# Altium footprint library Connectors.PcbLib: 19 footprints (part 1 of 2)
Each footprint in its own frame and in the unit in brackets; x right, y up, seen from the top. Pads: shape width x height; smd on the part's side, far side on the other; paste and mask are expansions set on the pad; w line width, h text height; cw(c..) or ccw(c..) is an arc to the next point about the centre after c.
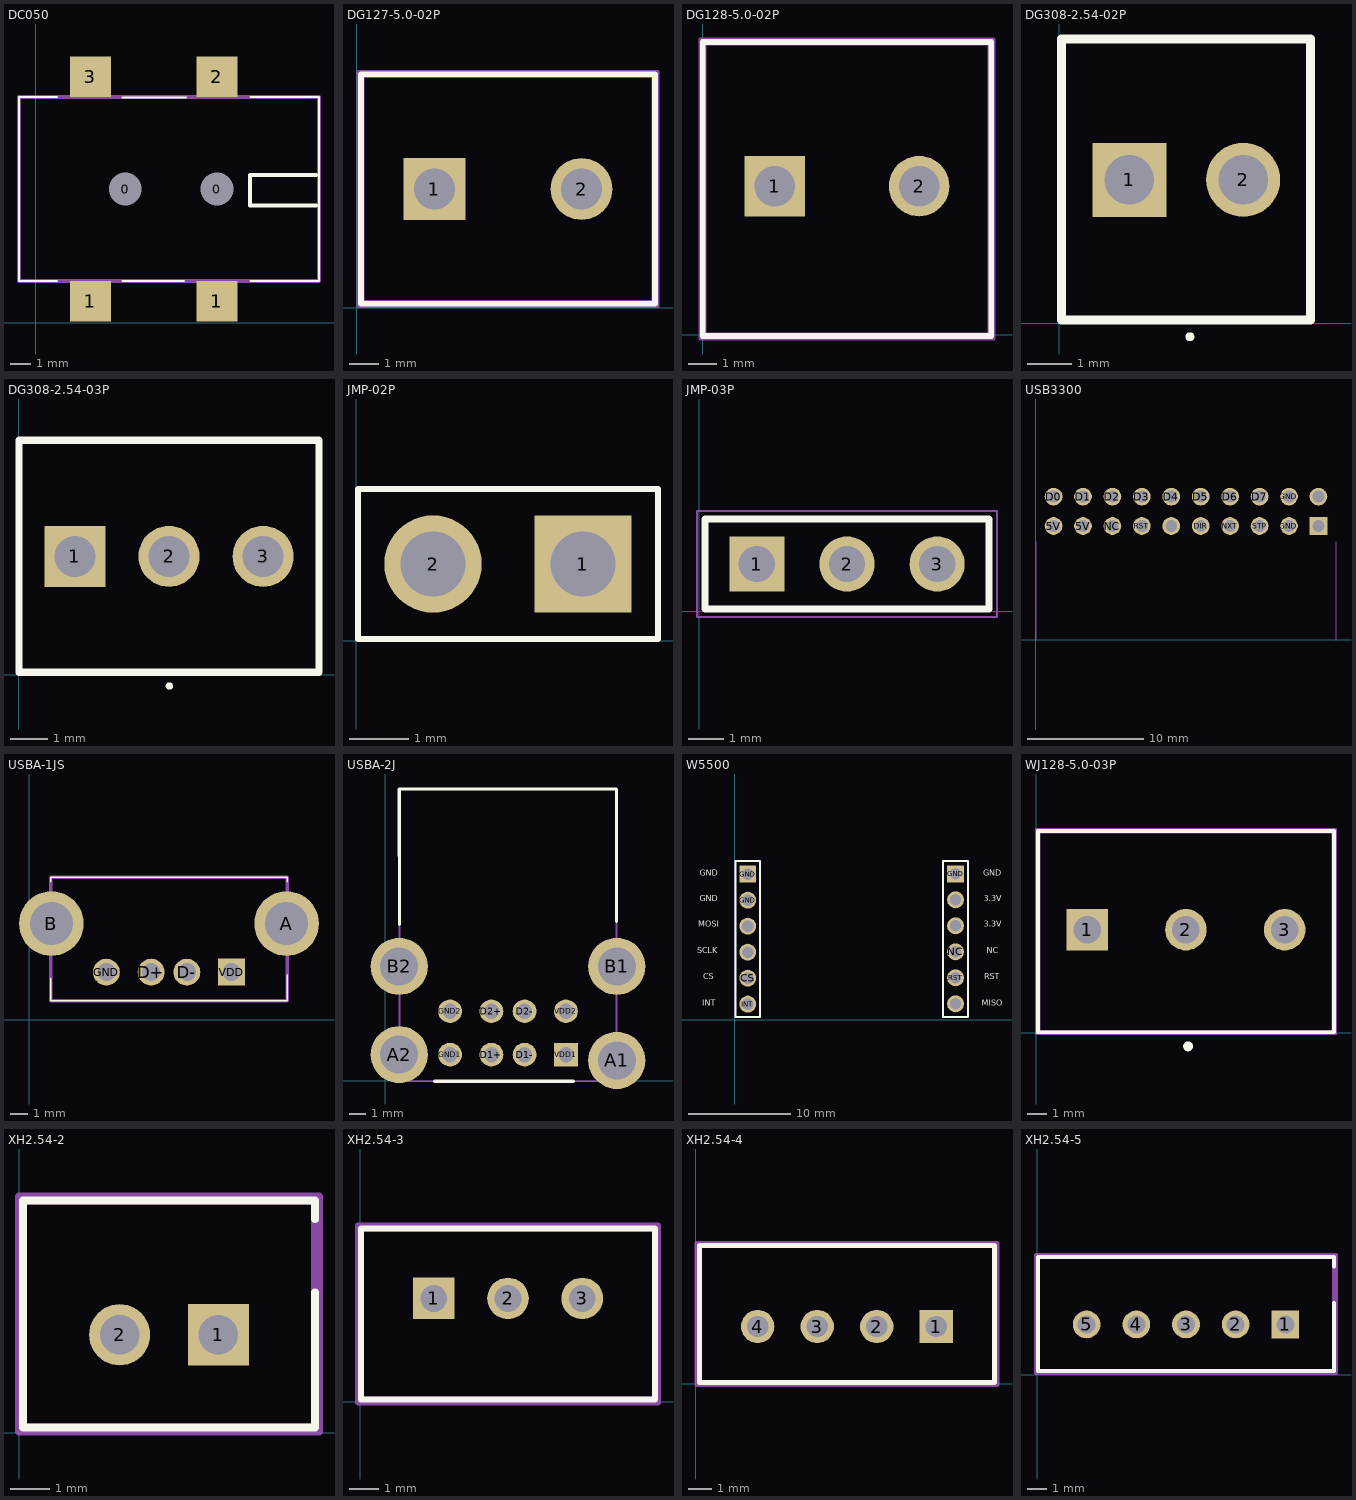
[diagram p0: the footprints below, top view; thin cyan lines are the x and y axes]

## DC050 [mm]
pads (6):
  round 0.8 hole 1.6 unplated: 0(4.387,6.558) 0(8.887,6.558)
  rect 2x2 smd: 1(2.687,1.058) 1(8.887,1.058) 2(8.887,12.058) 3(2.687,12.058)
Top Overlay:
  lines w0.1: 1.037,2.058 -0.813,2.058 -0.813,11.058 1.037,11.058 ; 4.25,2.05 7.275,2.05 ; 4.25,11.05 7.375,11.05 ; 10.537,2.058 13.887,2.058 13.887,11.058 10.537,11.058
  lines w0.2: 13.75,5.75 10.5,5.75 10.5,7.25 13.75,7.25
Top Courtyard:
  lines w0.2: -0.813,2.058 -0.813,11.058 13.887,11.058 13.887,2.058 -0.813,2.058
3D body "DC-050-T20.stp": height 11.1, standoff -1.7, extent -0.8,0.3 13.9,12.9

## DG127-5.0-02P [mm]
pads (2):
  rect 2.1x2.1 hole 1.4: 1(2.637,4.037)
  round 2.1 hole 1.4: 2(7.637,4.037)
Top Overlay:
  lines w0.2: 0.137,0.137 10.137,0.137 10.137,7.937 0.137,7.937 0.137,0.137
Mechanical 1:
  lines w0.254: 0.137,0.137 10.137,0.137 10.137,7.937 0.137,7.937 0.137,0.137
Top Courtyard:
  lines w0.1: 0.037,0.037 10.237,0.037 10.237,8.037 0.037,8.037 0.037,0.037
3D body "DG127-5.08-02P-14-1000AH.stp": height 10, standoff -3.9, extent -0.163,-0.063 10.337,8.037

## DG128-5.0-02P [mm]
pads (2):
  rect 2.1x2.1 hole 1.4: 1(2.507,5.153)
  round 2.1 hole 1.4: 2(7.507,5.153)
Top Overlay:
  lines w0.2: 0.007,-0.047 0.007,10.153 10.007,10.153 10.007,-0.047 0.007,-0.047
Mechanical 1:
  lines w0.254: 0.007,-0.047 10.007,-0.047 10.007,10.153 0.007,10.153 0.007,-0.047
Top Courtyard:
  lines w0.1: -0.093,-0.147 -0.093,10.253 10.107,10.253 10.107,-0.147 -0.093,-0.147
3D body "DG128-5.0-02P-14.stp": height 14, standoff -3.5, extent -0.293,-0.047 10.277,10.153

## DG308-2.54-02P [mm]
pads (2):
  rect 1.65x1.65 hole 1.1: 1(1.56,3.2)
  round 1.65 hole 1.1: 2(4.1,3.2)
Top Overlay:
  lines w0.1: 2.86,-0.3 cw(c2.91,-0.3) 2.96,-0.3 cw(c2.91,-0.3) 2.86,-0.3
  lines w0.2: 0.05,0.07 0.05,6.34 5.6,6.34 5.6,0.07 0.05,0.07
Top Courtyard:
  lines w0.1: 0.05,0.07 0.05,6.34 5.6,6.34 5.6,0.07 0.05,0.07
3D body "DG308-2.54-02P-14-00AH.stp": height 8.55, standoff -3.6, extent 0.02,0.1 5.58,6.4

## DG308-2.54-03P [mm]
pads (3):
  rect 1.65x1.65 hole 1.1: 1(1.519,3.2)
  round 1.65 hole 1.1: 2(4.059,3.2) 3(6.599,3.2)
Top Overlay:
  lines w0.1: 4.019,-0.3 cw(c4.069,-0.3) 4.119,-0.3 cw(c4.069,-0.3) 4.019,-0.3
  lines w0.2: 0.009,0.07 0.009,6.34 8.109,6.34 8.109,0.07 0.009,0.07
Top Courtyard:
  lines w0.1: 0.009,0.07 0.009,6.34 8.109,6.34 8.109,0.07 0.009,0.07
3D body "DG308-2.54-03P-14-00AH.stp": height 8.55, standoff -3.6, extent -0.05,0.1 8.05,6.4

## JMP-02P [mm]
pads (2):
  rect 1.65x1.65 / inner round 1.65 / far side rect 1.65x1.65 hole 1.1: 1(3.837,1.296)
  round 1.65 hole 1.1: 2(1.297,1.296)
Top Overlay:
  lines w0.1: 0.027,0.026 5.107,0.026 5.107,2.566 0.027,2.566 0.027,0.026
Top Courtyard:
  lines w0.1: 0.027,0.026 5.107,0.026 5.107,2.566 0.027,2.566 0.027,0.026
3D body "MTSW-102-07-G-S-240.stp": height 8.64, standoff -2.29, extent 0.027,0.026 5.107,2.566

## JMP-03P [mm]
pads (3):
  rect 1.55x1.55 hole 1.02: 1(1.625,1.335)
  round 1.55 hole 1.02: 2(4.165,1.335) 3(6.705,1.335)
Top Overlay:
  lines w0.2: 0.165,0.065 8.165,0.065 8.165,2.605 0.165,2.605 0.165,0.065
Top 3D Body:
  lines w0.1: 0.165,0.065 8.165,0.065 8.165,2.605 0.165,2.605 0.165,0.065
Top Courtyard:
  lines w0.05: -0.06,-0.16 8.39,-0.16 8.39,2.83 -0.06,2.83 -0.06,-0.16
3D body "TSW-103-07-X-S.step": height 8.38, standoff -2.54, extent 0.355,0.065 7.975,2.605

## USB3300 [mm]
pads (20):
  rect 1.53x1.53 hole 1.02: 3.3V(24.389,9.826)
  round 1.53 hole 1.02: 3.3V(24.389,12.366) 5V(1.529,9.826) 5V(4.069,9.826) CLKOUT(11.689,9.826) D0(1.529,12.366) D1(4.069,12.366) D2(6.609,12.366) D3(9.149,12.366) D4(11.689,12.366) D5(14.229,12.366) D6(16.769,12.366) D7(19.309,12.366) DIR(14.229,9.826) GND(21.849,9.826) GND(21.849,12.366) NC(6.609,9.826) NXT(16.769,9.826) RST(9.149,9.826) STP(19.309,9.826)
Top Courtyard:
  lines w0.1: 0.009,-0.034 0.009,8.466 ; 25.909,-0.034 25.909,8.466
3D body "DS1024-2_10R2.stp": height 5.35, standoff -5, extent 0.039,-0.081 25.939,12.726

## USBA-1JS [mm]
pads (6):
  round 3.615 hole 2.41: A(14.362,5.361) B(1.222,5.361)
  round 1.5 hole 1: D+(6.792,2.651) D-(8.792,2.651) GND(4.292,2.651)
  rect 1.5x1.5 hole 1: VDD(11.292,2.651)
Top Overlay:
  lines w0.1: 1.192,2.3 1.192,1.051 1.222,1.051 14.392,1.051 14.392,2.5 ; 1.192,7.7 1.192,7.951 14.392,7.951 14.392,7.7
Top Courtyard:
  lines w0.2: 1.192,1.051 14.392,1.051 14.392,7.951 1.192,7.951 1.192,1.051
3D body "USBA_Socket_straight_THT.step": height 13.35, standoff -4.63, extent 0.648,0.2 15,7.245

## USBA-2J [mm]
pads (12):
  round 3.45 hole 2.3: A1(13.985,1.232) A2(0.845,1.582) B1(13.985,6.912) B2(0.845,6.912)
  round 1.431 hole 0.92: D1+(6.415,1.582) D1-(8.415,1.582) D2+(6.415,4.202) D2-(8.415,4.202) GND1(3.915,1.582) GND2(3.915,4.202) VDD2(10.915,4.202)
  rect 1.431x1.431 hole 0.92: VDD1(10.915,1.582)
Top Overlay:
  lines w0.2: 0.864,9.45 0.845,17.622 13.965,17.622 13.965,9.625 ; 2.975,-0.025 11.375,-0.025
Top Courtyard:
  lines w0.1: 0.865,-0.028 0.865,17.622 13.965,17.622 13.965,-0.028 0.865,-0.028
3D body "USB-A-D-F-W-TH.stp": height 16.14, standoff -4.42, extent 0.15,0 14.799,17.65

## W5500 [mm]
pads (12):
  round 1.65 hole 1.1: 3.3V(21.55,9.17) 3.3V(21.55,11.71) CS(1.25,4.065) GND(1.25,11.685) INT(1.25,1.525) MISO(21.55,1.55) MOSI(1.25,9.145) NC(21.55,6.63) RST(21.55,4.09) SCLK(1.25,6.605)
  rect 1.65x1.65 / inner round 1.65 / far side rect 1.65x1.65 hole 1.1: GND(1.25,14.225) GND(21.55,14.25)
Top Overlay:
  lines w0.2: 0.045,0.255 0.045,15.495 2.455,15.495 2.455,0.255 0.045,0.255 ; 20.345,0.28 20.345,15.52 22.755,15.52 22.755,0.28 20.345,0.28
  text "INT" at -3.19,1.169 h1
  text "CS" at -3.087,3.78 h1
  text "SCLK" at -3.71,6.28 h1
  text "MOSI" at -3.591,8.88 h1
  text "GND" at -3.459,11.38 h1
  text "GND" at -3.459,13.88 h1
  text "MISO" at 24.098,1.18 h1
  text "RST" at 24.338,3.78 h1
  text "NC" at 24.601,6.28 h1
  text "3.3V" at 24.287,8.88 h1
  text "3.3V" at 24.287,11.38 h1
  text "GND" at 24.241,13.88 h1
Top Courtyard:
  lines w0.1: 0.045,0.255 2.455,0.255 2.455,15.495 0.045,15.495 0.045,0.255 ; 20.345,0.28 22.755,0.28 22.755,15.52 20.345,15.52 20.345,0.28
3D body "W5500 mini Module.stp": height 17.94, standoff -6.35, extent -0.1,-4.15 22.9,22.95

## WJ128-5.0-03P [mm]
pads (3):
  rect 2.1x2.1 hole 1.4: 1(2.585,5.214)
  round 2.1 hole 1.4: 2(7.585,5.214) 3(12.6,5.214)
Top Overlay:
  circle w0.25: c7.7,-0.7 r0.125
  lines w0.2: 0.085,0.014 0.085,10.214 15.1,10.214 15.1,0.014 0.085,0.014
Mechanical 1:
  lines w0.254: 0.085,0.014 15.1,0.014 15.1,10.214 0.085,10.214 0.085,0.014
Top Courtyard:
  lines w0.1: -0.015,-0.086 -0.015,10.314 15.2,10.314 15.2,-0.086 -0.015,-0.086
3D body "DG128-5.0-03P-14-00A_H_.stp": height 14.07, standoff -3.43, extent -0.2,0 15.37,10.2

## XH2.54-2 [mm]
pads (2):
  rect 1.55x1.55 hole 1 paste-2539.97 mask+0: 1(5.041,2.483)
  round 1.55 hole 1 paste-2539.97 mask+0: 2(2.541,2.483)
Top Overlay:
  lines w0.2: 7.491,3.558 7.491,0.133 0.091,0.133 0.091,5.883 7.491,5.883 7.491,5.408
Top Assembly:
  lines w0.2: -0.009,0.033 7.591,0.033 7.591,5.983 -0.009,5.983 -0.009,0.033
Top 3D Body:
  lines w0.2: 0.091,0.133 7.491,0.133 7.491,5.883 0.091,5.883 0.091,0.133
Top Courtyard:
  lines w0.2: -0.009,0.033 7.591,0.033 7.591,5.983 -0.009,5.983 -0.009,0.033
3D body "Conn_JST_B2B-XH-AM_LF_SN_eec.STEP": height 0.25, standoff 0, extent -0.009,0.033 7.591,5.983

## XH2.54-3 [mm]
pads (3):
  rect 1.4x1.4 hole 0.9 paste-2539.97 mask+0: 1(2.475,3.486)
  round 1.4 hole 0.9 paste-2539.97 mask+0: 2(4.975,3.486) 3(7.475,3.486)
Top Overlay:
  lines w0.2: 0.025,0.086 0.025,5.836 9.925,5.836 9.925,0.086 0.025,0.086
Top Assembly:
  lines w0.2: -0.075,-0.014 -0.075,5.936 10.025,5.936 10.025,-0.014 -0.075,-0.014
Top 3D Body:
  lines w0.2: 0.025,0.086 0.025,5.836 9.925,5.836 9.925,0.086 0.025,0.086
Top Courtyard:
  lines w0.2: -0.075,-0.014 -0.075,5.936 10.025,5.936 10.025,-0.014 -0.075,-0.014
3D body "Conn_JST_B3B-XH-A_LF_SN_eec.STEP": height 0.25, standoff 0, extent -0.075,-0.014 10.025,5.936

## XH2.54-4 [mm]
pads (4):
  rect 1.4x1.4 hole 0.9 paste-2539.97 mask+0: 1(10.1,2.396)
  round 1.4 hole 0.9 paste-2539.97 mask+0: 2(7.6,2.396) 3(5.1,2.396) 4(2.6,2.396)
Top Overlay:
  lines w0.2: 0.15,0.046 0.15,5.796 12.55,5.796 12.55,0.046 0.15,0.046
Top Assembly:
  lines w0.2: 0.05,-0.054 0.05,5.896 12.65,5.896 12.65,-0.054 0.05,-0.054
Top 3D Body:
  lines w0.2: 0.15,0.046 0.15,5.796 12.55,5.796 12.55,0.046 0.15,0.046
Top Courtyard:
  lines w0.2: 0.05,-0.054 0.05,5.896 12.65,5.896 12.65,-0.054 0.05,-0.054
3D body "Conn_JST_B4B-XH-A_LF_SN_eec.STEP": height 0.25, standoff 0, extent 0.05,-0.054 12.65,5.896

## XH2.54-5 [mm]
pads (5):
  rect 1.4x1.4 hole 0.9 paste-2539.97 mask+0: 1(12.493,2.523)
  round 1.4 hole 0.9 paste-2539.97 mask+0: 2(9.993,2.523) 3(7.493,2.523) 4(4.993,2.523) 5(2.493,2.523)
Top Overlay:
  lines w0.2: 14.943,3.598 14.943,0.173 0.043,0.173 0.043,5.923 14.943,5.923 14.943,5.448
Top Assembly:
  lines w0.2: -0.057,0.073 -0.057,6.023 15.043,6.023 15.043,0.073 -0.057,0.073
Top 3D Body:
  lines w0.2: 0.043,0.173 0.043,5.923 14.943,5.923 14.943,0.173 0.043,0.173
Top Courtyard:
  lines w0.2: -0.057,0.073 -0.057,6.023 15.043,6.023 15.043,0.073 -0.057,0.073
3D body "Conn_JST_B5B-XH-AM_LF_SN_eec.STEP": height 0.25, standoff 0, extent -0.057,0.073 15.043,6.023